# EAGLE library part AD620 (library AD620)
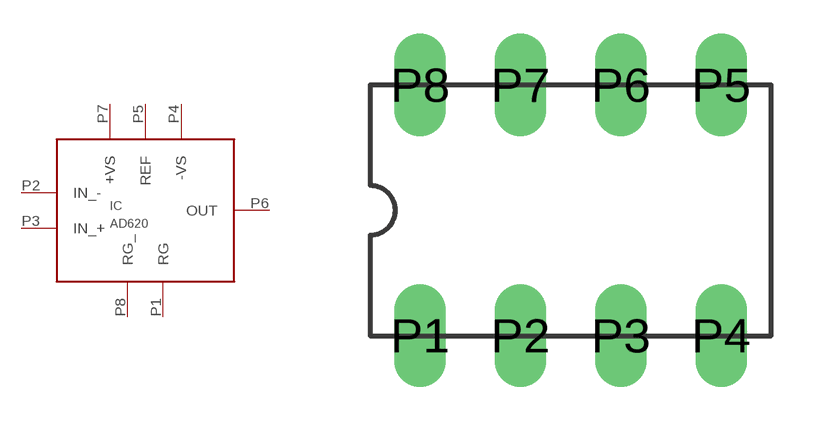
[diagram p0: symbol with the pads of DIL8; footprint DIL8]

Designator prefix IC

## AD620  [DIL8]
P1  RG  in
P2  IN_-  in
P3  IN_+  in
P4  -VS  pwr
P5  REF  pwr
P6  OUT  out
P7  +VS  pwr
P8  RG_  in

## Footprint DIL8 (pad centres in mm)
8 Dual In Line Package
drill 0.8 long: P1 -3.81,2.54; P2 -1.27,2.54; P3 1.27,2.54; P4 3.81,2.54; P5 3.81,8.89; P6 1.27,8.89; P7 -1.27,8.89; P8 -3.81,8.89